# EAGLE library part PAIRE (library Mes_Transistors)
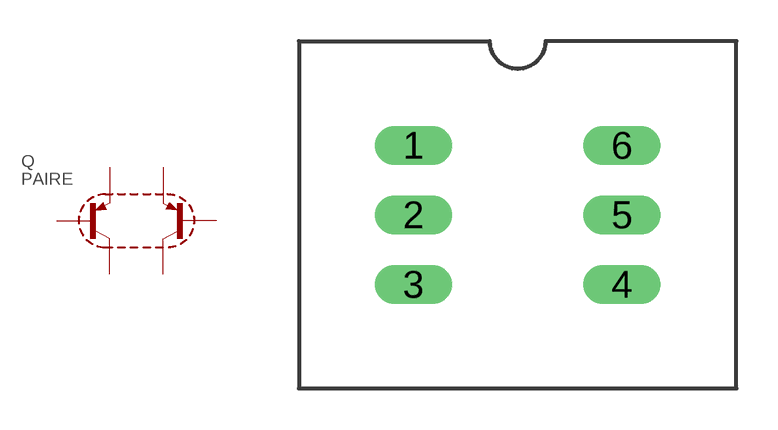
[diagram p1: symbol with the pads of DIP06; footprint DIP06]

Designator prefix Q

## PAIRE  [DIP06]
1  E1  pas
2  B1  pas
3  C1  pas
4  C2  pas
5  B2  pas
6  E2  pas

## Footprint DIP06 (pad centres in mm)
drill 0.813 pad 1.422 long: 1 -3.81,2.54; 2 -3.81,0; 3 -3.81,-2.54; 4 3.81,-2.54; 5 3.81,0; 6 3.81,2.54